# EAGLE library part 64900621122 (library Wurth_Elektronik_Electromechanic_Wire_to_Board_Connectors_rev16a)
WR-MPC4 4.20mm Male Dual Row Vertical Header, 6 Pins=>Code : Con_WTB_MPC4_2_PCB_64900621122 <http://katalog.we-online.de/media/thumbs2/eican/thb_Con_WTB_MPC4_2_PCB_6490xx21122_pf2.jpg> Details see: http://katalog.we-online.de/en/em/649_0xx_211_22 Created 2014-06-06, Karrer Zheng 2014 (C) Würth Elektronik
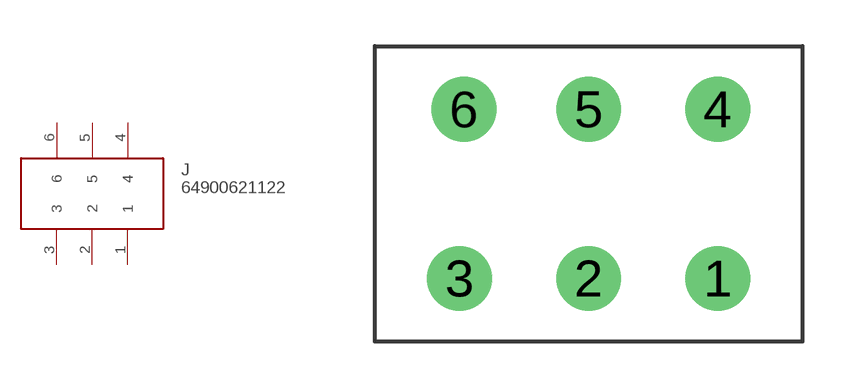
[diagram p276: symbol with the pads of 64900621122; footprint 64900621122]

Designator prefix J

## 64900621122  [64900621122]
1  1  pas
2  2  pas
3  3  pas
4  4  pas
5  5  pas
6  6  hiz

## Footprint 64900621122 (pad centres in mm)
WR-MPC4 4.20mm Male Dual Row Vertical Header, 6 Pins
drill 1.4: 1 4.2,-2.75; 2 0,-2.75; 3 -4.2,-2.75; 4 4.2,2.75; 5 0,2.75; 6 -4.055,2.75